# Altium footprint library DIOAD1300W80L670D310.PcbLib: 1 footprints
Each footprint in its own frame and in the unit in brackets; x right, y up, seen from the top. Pads: shape width x height; smd on the part's side, far side on the other; paste and mask are expansions set on the pad; w line width, h text height; cw(c..) or ccw(c..) is an arc to the next point about the centre after c.
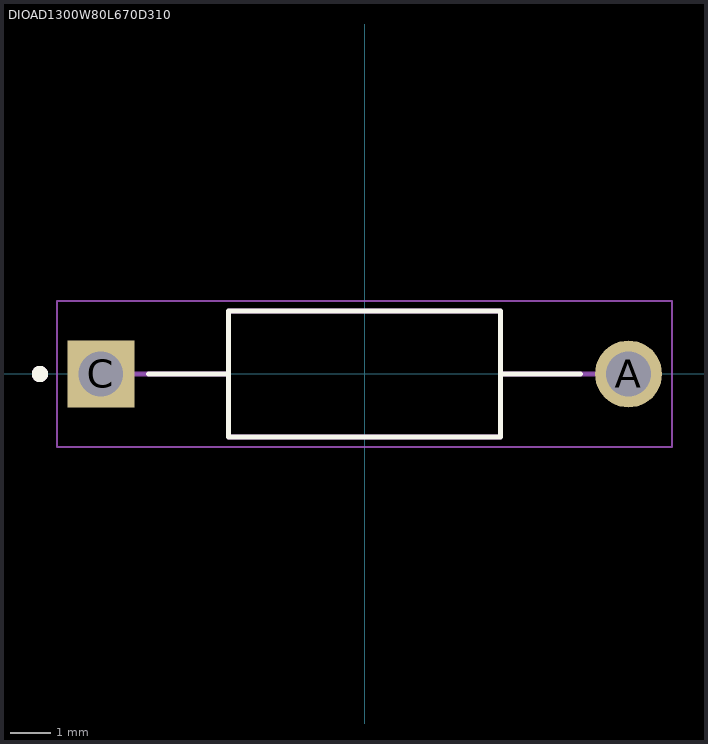
[diagram p0: the footprint, top view; thin cyan lines are the x and y axes]

## DIOAD1300W80L670D310 [mm]
height 3.6
pads (2):
  round 1.65 hole 1.1: A(6.5,0)
  rect 1.65x1.65 / inner round 1.65 / far side rect 1.65x1.65 hole 1.1: C(-6.5,0)
Top Overlay:
  circle w0.2: c-8,0 r0.1
  lines w0.127: -5.32,0 -3.35,0 ; 5.32,0 3.35,0 ; -3.35,0 -3.35,1.55 3.35,1.55 3.35,0 ; -3.35,0 -3.35,-1.55 3.35,-1.55 3.35,0
Mechanical 13:
  circle w0.2: c-8,0 r0.1
  lines w0.127: -6.5,0 -3.35,0 ; 6.5,0 3.35,0 ; -3.35,0 -3.35,1.55 3.35,1.55 3.35,0 ; -3.35,0 -3.35,-1.55 3.35,-1.55 3.35,0
Mechanical 15:
  lines w0.05: -7.575,-1.8 -7.575,1.8 7.575,1.8 7.575,-1.8 -7.575,-1.8
3D body "step_temp.STEP": height 3.6, standoff -17.1, extent -6.9,-1.8 6.9,1.8